# Altium footprint library LQFN.PcbLib: 4 footprints
Each footprint in its own frame and in the unit in brackets; x right, y up, seen from the top. Pads: shape width x height; smd on the part's side, far side on the other; paste and mask are expansions set on the pad; w line width, h text height; cw(c..) or ccw(c..) is an arc to the next point about the centre after c.
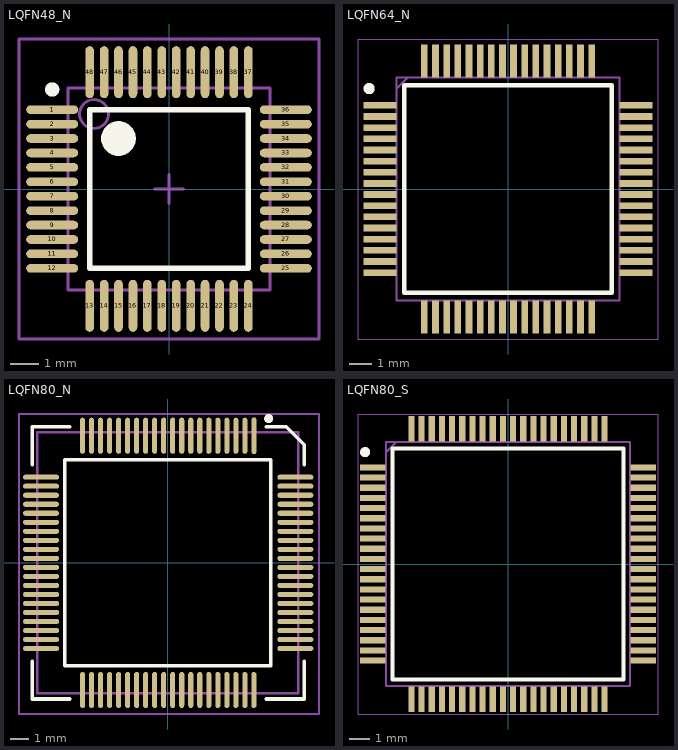
[diagram p0: the footprints below, top view; thin cyan lines are the x and y axes]

## LQFN48_N [mm] "Thin QFP, 48-Leads, Body 7x7mm, Pitch 0.5mm, IPC Medium Density"
height 1.6
pads (48):
  oval 1.8x0.3 smd: 1(-4.05,2.75) 2(-4.05,2.25) 3(-4.05,1.75) 4(-4.05,1.25) 5(-4.05,0.75) 6(-4.05,0.25) 7(-4.05,-0.25) 8(-4.05,-0.75) 9(-4.05,-1.25) 10(-4.05,-1.75) 11(-4.05,-2.25) 12(-4.05,-2.75) 25(4.05,-2.75) 26(4.05,-2.25) 27(4.05,-1.75) 28(4.05,-1.25) 29(4.05,-0.75) 30(4.05,-0.25) 31(4.05,0.25) 32(4.05,0.75) 33(4.05,1.25) 34(4.05,1.75) 35(4.05,2.25) 36(4.05,2.75)
  oval 0.3x1.8 smd: 13(-2.75,-4.05) 14(-2.25,-4.05) 15(-1.75,-4.05) 16(-1.25,-4.05) 17(-0.75,-4.05) 18(-0.25,-4.05) 19(0.25,-4.05) 20(0.75,-4.05) 21(1.25,-4.05) 22(1.75,-4.05) 23(2.25,-4.05) 24(2.75,-4.05) 37(2.75,4.05) 38(2.25,4.05) 39(1.75,4.05) 40(1.25,4.05) 41(0.75,4.05) 42(0.25,4.05) 43(-0.25,4.05) 44(-0.75,4.05) 45(-1.25,4.05) 46(-1.75,4.05) 47(-2.25,4.05) 48(-2.75,4.05)
Top Overlay:
  circle w0.25: c-4.05,3.45 r0.125
  circle w0.6: c-1.75,1.75 r0.3
  lines w0.2: -2.75,-2.75 -2.75,2.75 2.75,2.75 2.75,-2.75 -2.75,-2.75
Mechanical 13:
  circle w0.1: c-2.6,2.6 r0.5
  lines w0.1: -3.5,-3.5 -3.5,3.5 3.5,3.5 3.5,-3.5 -3.5,-3.5
Mechanical 15:
  lines w0.1: -0.5,0 0.5,0 ; 0,-0.5 0,0.5 ; -5.2,-5.2 -5.2,5.2 5.2,5.2 5.2,-5.2 -5.2,-5.2
3D body "User Library-P-LQFP48-7x7-0_50.STEP": height 1.44, standoff -0.01, extent -4.496,-4.504 4.504,4.496

## LQFN64_N [mm]
pads (64):
  rect 1.475x0.3 smd: 1(-5.738,3.75) 2(-5.738,3.25) 3(-5.738,2.75) 4(-5.738,2.25) 5(-5.738,1.75) 6(-5.738,1.25) 7(-5.738,0.75) 8(-5.738,0.25) 9(-5.738,-0.25) 10(-5.738,-0.75) 11(-5.738,-1.25) 12(-5.738,-1.75) 13(-5.738,-2.25) 14(-5.738,-2.75) 15(-5.738,-3.25) 16(-5.738,-3.75) 33(5.738,-3.75) 34(5.738,-3.25) 35(5.738,-2.75) 36(5.738,-2.25) 37(5.738,-1.75) 38(5.738,-1.25) 39(5.738,-0.75) 40(5.738,-0.25) 41(5.738,0.25) 42(5.738,0.75) 43(5.738,1.25) 44(5.738,1.75) 45(5.738,2.25) 46(5.738,2.75) 47(5.738,3.25) 48(5.738,3.75)
  rect 0.3x1.475 smd: 17(-3.75,-5.738) 18(-3.25,-5.738) 19(-2.75,-5.738) 20(-2.25,-5.738) 21(-1.75,-5.738) 22(-1.25,-5.738) 23(-0.75,-5.738) 24(-0.25,-5.738) 25(0.25,-5.738) 26(0.75,-5.738) 27(1.25,-5.738) 28(1.75,-5.738) 29(2.25,-5.738) 30(2.75,-5.738) 31(3.25,-5.738) 32(3.75,-5.738) 49(3.75,5.738) 50(3.25,5.738) 51(2.75,5.738) 52(2.25,5.738) 53(1.75,5.738) 54(1.25,5.738) 55(0.75,5.738) 56(0.25,5.738) 57(-0.25,5.738) 58(-0.75,5.738) 59(-1.25,5.738) 60(-1.75,5.738) 61(-2.25,5.738) 62(-2.75,5.738) 63(-3.25,5.738) 64(-3.75,5.738)
Top Overlay:
  circle w0.25: c-6.225,4.5 r0.125
  lines w0.2: -4.65,-4.65 -4.65,4.65 4.65,4.65 4.65,-4.65 -4.65,-4.65
Mechanical 13:
  lines w0.1: -5,4.5 -4.5,5 ; -5,-5 -5,5 5,5 5,-5 -5,-5
Mechanical 15:
  lines w0.05: -6.725,-6.725 -6.725,6.725 6.725,6.725 6.725,-6.725 -6.725,-6.725
3D body "STM32F103RCT6.stp": height 1.6, standoff 0, extent -6,-6 6,6

## LQFN80_N [mm]
pads (80):
  oct 0.28x2 smd: 1(4.77,7.05)
  oval 0.28x2 smd: 2(4.27,7.05) 3(3.77,7.05) 4(3.27,7.05) 5(2.77,7.05) 6(2.27,7.05) 7(1.77,7.05) 8(1.27,7.05) 9(0.77,7.05) 10(0.27,7.05) 11(-0.23,7.05) 12(-0.73,7.05) 13(-1.23,7.05) 14(-1.73,7.05) 15(-2.23,7.05) 16(-2.73,7.05) 17(-3.23,7.05) 18(-3.73,7.05) 19(-4.23,7.05) 20(-4.73,7.05) 41(-4.73,-7.05) 42(-4.23,-7.05) 43(-3.73,-7.05) 44(-3.23,-7.05) 45(-2.73,-7.05) 46(-2.23,-7.05) 47(-1.73,-7.05) 48(-1.23,-7.05) 49(-0.73,-7.05) 50(-0.23,-7.05) 51(0.27,-7.05) 52(0.77,-7.05) 53(1.27,-7.05) 54(1.77,-7.05) 55(2.27,-7.05) 56(2.77,-7.05) 57(3.27,-7.05) 58(3.77,-7.05) 59(4.27,-7.05) 60(4.77,-7.05)
  oval 2x0.28 smd: 21(-7.03,4.75) 22(-7.03,4.25) 23(-7.03,3.75) 24(-7.03,3.25) 25(-7.03,2.75) 26(-7.03,2.25) 27(-7.03,1.75) 28(-7.03,1.25) 29(-7.03,0.75) 30(-7.03,0.25) 31(-7.03,-0.25) 32(-7.03,-0.75) 33(-7.03,-1.25) 34(-7.03,-1.75) 35(-7.03,-2.25) 36(-7.03,-2.75) 37(-7.03,-3.25) 38(-7.03,-3.75) 39(-7.03,-4.25) 40(-7.03,-4.75) 61(7.07,-4.75) 62(7.07,-4.25) 63(7.07,-3.75) 64(7.07,-3.25) 65(7.07,-2.75) 66(7.07,-2.25) 67(7.07,-1.75) 68(7.07,-1.25) 69(7.07,-0.75) 70(7.07,-0.25) 71(7.07,0.25) 72(7.07,0.75) 73(7.07,1.25) 74(7.07,1.75) 75(7.07,2.25) 76(7.07,2.75) 77(7.07,3.25) 78(7.07,3.75) 79(7.07,4.25) 80(7.07,4.75)
Top Overlay:
  circle w0.25: c5.588,8.001 r0.125
  lines w0.2: -7.53,-5.45 -7.53,-7.55 -5.43,-7.55 ; -7.53,5.45 -7.53,7.55 -5.43,7.55 ; 5.47,-7.55 7.57,-7.55 7.57,-5.45 ; 5.47,7.55 6.57,7.55 7.57,6.55 7.57,5.45 ; -5.715,-5.715 -5.715,5.715 5.715,5.715 5.715,-5.715 -5.715,-5.715
Mechanical 13:
  lines w0.127: -7.239,-7.239 -7.239,7.239 7.239,7.239 7.239,-7.239 -7.239,-7.239
Mechanical 15:
  lines w0.127: -8.255,-8.382 -8.255,8.255 8.382,8.255 8.382,-8.382 -8.255,-8.382
3D body "User Library-QFP50P1400X1400X160-80N.step": height 1.6, standoff 0, extent -7.1,-7.1 7.1,7.1

## LQFN80_S [mm]
pads (80):
  rect 1.25x0.3 smd: 1(-6.65,4.75) 2(-6.65,4.25) 3(-6.65,3.75) 4(-6.65,3.25) 5(-6.65,2.75) 6(-6.65,2.25) 7(-6.65,1.75) 8(-6.65,1.25) 9(-6.65,0.75) 10(-6.65,0.25) 11(-6.65,-0.25) 12(-6.65,-0.75) 13(-6.65,-1.25) 14(-6.65,-1.75) 15(-6.65,-2.25) 16(-6.65,-2.75) 17(-6.65,-3.25) 18(-6.65,-3.75) 19(-6.65,-4.25) 20(-6.65,-4.75) 41(6.65,-4.75) 42(6.65,-4.25) 43(6.65,-3.75) 44(6.65,-3.25) 45(6.65,-2.75) 46(6.65,-2.25) 47(6.65,-1.75) 48(6.65,-1.25) 49(6.65,-0.75) 50(6.65,-0.25) 51(6.65,0.25) 52(6.65,0.75) 53(6.65,1.25) 54(6.65,1.75) 55(6.65,2.25) 56(6.65,2.75) 57(6.65,3.25) 58(6.65,3.75) 59(6.65,4.25) 60(6.65,4.75)
  rect 0.3x1.25 smd: 21(-4.75,-6.65) 22(-4.25,-6.65) 23(-3.75,-6.65) 24(-3.25,-6.65) 25(-2.75,-6.65) 26(-2.25,-6.65) 27(-1.75,-6.65) 28(-1.25,-6.65) 29(-0.75,-6.65) 30(-0.25,-6.65) 31(0.25,-6.65) 32(0.75,-6.65) 33(1.25,-6.65) 34(1.75,-6.65) 35(2.25,-6.65) 36(2.75,-6.65) 37(3.25,-6.65) 38(3.75,-6.65) 39(4.25,-6.65) 40(4.75,-6.65) 61(4.75,6.65) 62(4.25,6.65) 63(3.75,6.65) 64(3.25,6.65) 65(2.75,6.65) 66(2.25,6.65) 67(1.75,6.65) 68(1.25,6.65) 69(0.75,6.65) 70(0.25,6.65) 71(-0.25,6.65) 72(-0.75,6.65) 73(-1.25,6.65) 74(-1.75,6.65) 75(-2.25,6.65) 76(-2.75,6.65) 77(-3.25,6.65) 78(-3.75,6.65) 79(-4.25,6.65) 80(-4.75,6.65)
Top Overlay:
  circle w0.25: c-7.025,5.5 r0.125
  lines w0.2: -5.675,-5.675 5.675,-5.675 5.675,5.675 -5.675,5.675 -5.675,-5.675
Mechanical 15:
  lines w0.1: -6,5.5 -5.5,6 ; -6,-6 6,-6 6,6 -6,6 -6,-6
Mechanical 20:
  lines w0.05: -7.375,-7.375 7.375,-7.375 7.375,7.375 -7.375,7.375 -7.375,-7.375
3D body "User Library-QFP50P1400X1400X160-80N.step": height 1.6, standoff 0, extent -7.1,-7.1 7.1,7.1